# Altium schematic symbol library SS-90000-002.SchLib: 1 symbol
Pins are listed as number, name and electrical type; pins without a type are passive.

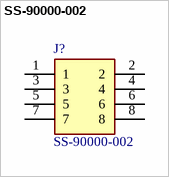
[diagram p0: symbol SS-90000-002]

## SS-90000-002
designator J?
Modular Connectors / Ethernet Connectors RJ45 Jack, 8P8C unshld horiz flng; Manufacturer_Name: BelFuse; Geometry.Height: 16.13mm; Mouser Part Number: 530-SS-90000-002; Mouser Price/Stock: https://www.mouser.co.uk/ProductDetail/Stewart-Connector-Bel/SS-90000-002?qs=QNEnbhJQKval8F6sm0ZXMw%3D%3D; Manufacturer_Part_Number: SS-90000-002; Datasheet Link: https://www.belfuse.com/resources/drawings/stewartconnector/dr-STW-SS-90000-002.pdf
footprint SS90000002
pins: 1, 2, 3, 4, 5, 6, 7, 8